# Altium schematic symbol library DCSupplyHubLib.SchLib: 133 symbols (part 2 of 2)
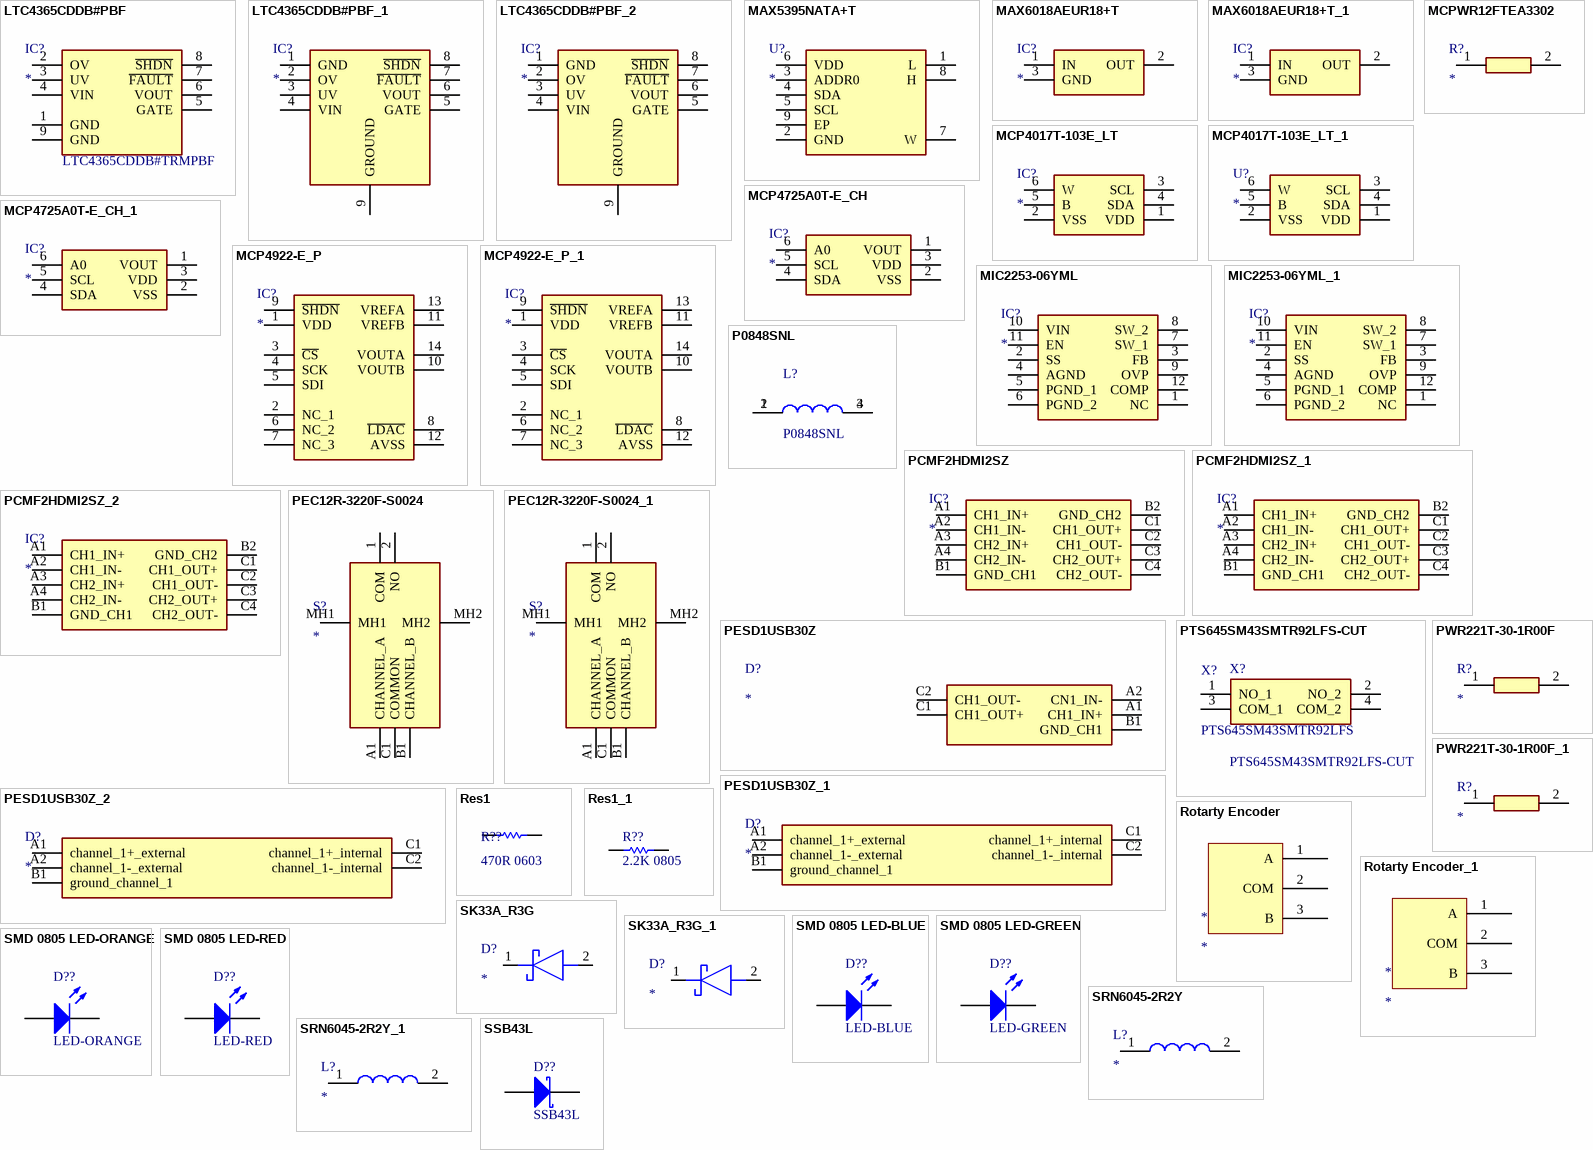
[diagram p4: symbols LTC4365CDDB#PBF to SSB43L]

## MIC2253-06YML
designator IC?
Integrated Circuit; Manufacturer_Name: Microchip; Manufacturer_Part_Number: MIC2253-06YML; Datasheet Link: http://uk.rs-online.com/web/p/products/7092273; Height: 0.9mm
footprint SON50P300X300X90-13N-D
pins: 1 NC, 2 SS, 3 FB, 4 AGND, 5 PGND_1, 6 PGND_2, 7 SW_1, 8 SW_2, 9 OVP, 10 VIN, 11 EN, 12 COMP

## MIC2253-06YML_1
designator IC?
Integrated Circuit; Manufacturer_Name: Microchip; Manufacturer_Part_Number: MIC2253-06YML; Datasheet Link: http://uk.rs-online.com/web/p/products/7092273; Height: 0.9mm
footprint SON50P300X300X90-13N-D
pins: 1 NC, 2 SS, 3 FB, 4 AGND, 5 PGND_1, 6 PGND_2, 7 SW_1, 8 SW_2, 9 OVP, 10 VIN, 11 EN, 12 COMP

## P0848SNL
designator L?
FIXED IND 50UH 5A 25 MOHM SMD; Manufacturer_Name: Pulse Electronics; Geometry.Height: 12.7mm; Manufacturer_Part_Number: P0848SNL; Mouser Part Number: 673-P0848SNL; Mouser Price/Stock: https://www.mouser.co.uk/ProductDetail/Pulse-Electronics/P0848SNL?qs=XfNjFG7P%252BGIy60WqB%2FkzDw%3D%3D; Arrow Part Number: P0848SNL; Arrow Price/Stock: https://www.arrow.com/en/products/p0848snl/pulse-electronics-corporation?region=nac; Datasheet Link: http://productfinder.pulseeng.com/products/datasheets/SPM2007_46.pdf
footprint P0848SNL
pins: 1, 2, 3, 4

## PCMF2HDMI2SZ
designator IC?
Integrated Circuit; Manufacturer_Name: Nexperia; Manufacturer_Part_Number: PCMF2HDMI2SZ; Datasheet Link: https://assets.nexperia.com/documents/data-sheet/PCMFXHDMI2S_SER.pdf; Height: 0.6mm; Mouser Part Number: 771-PCMF2HDMI2SZ; Mouser Price/Stock: https://www.mouser.co.uk/ProductDetail/Nexperia/PCMF2HDMI2SZ?qs=ZgsfeaBZMTTJnsIdjB80bA%3D%3D; Arrow Part Number: PCMF2HDMI2SZ; Arrow Price/Stock: https://www.arrow.com/en/products/pcmf2hdmi2sz/nexperia?region=nac
footprint PCMF2HDMI2SZ
pins: A1 CH1_IN+, A2 CH1_IN-, A3 CH2_IN+, A4 CH2_IN-, B1 GND_CH1, B2 GND_CH2, C1 CH1_OUT+, C2 CH1_OUT-, C3 CH2_OUT+, C4 CH2_OUT-

## PCMF2HDMI2SZ_1
designator IC?
Integrated Circuit; Manufacturer_Name: Nexperia; Manufacturer_Part_Number: PCMF2HDMI2SZ; Datasheet Link: https://assets.nexperia.com/documents/data-sheet/PCMFXHDMI2S_SER.pdf; Height: 0.6mm; Mouser Part Number: 771-PCMF2HDMI2SZ; Mouser Price/Stock: https://www.mouser.co.uk/ProductDetail/Nexperia/PCMF2HDMI2SZ?qs=ZgsfeaBZMTTJnsIdjB80bA%3D%3D; Arrow Part Number: PCMF2HDMI2SZ; Arrow Price/Stock: https://www.arrow.com/en/products/pcmf2hdmi2sz/nexperia?region=nac
footprint PCMF2HDMI2SZ
pins: A1 CH1_IN+, A2 CH1_IN-, A3 CH2_IN+, A4 CH2_IN-, B1 GND_CH1, B2 GND_CH2, C1 CH1_OUT+, C2 CH1_OUT-, C3 CH2_OUT+, C4 CH2_OUT-

## PCMF2HDMI2SZ_2
designator IC?
Integrated Circuit; Manufacturer_Name: Nexperia; Manufacturer_Part_Number: PCMF2HDMI2SZ; Datasheet Link: https://assets.nexperia.com/documents/data-sheet/PCMFXHDMI2S_SER.pdf; Height: 0.6mm; Mouser Part Number: 771-PCMF2HDMI2SZ; Mouser Price/Stock: https://www.mouser.co.uk/ProductDetail/Nexperia/PCMF2HDMI2SZ?qs=ZgsfeaBZMTTJnsIdjB80bA%3D%3D; Arrow Part Number: PCMF2HDMI2SZ; Arrow Price/Stock: https://www.arrow.com/en/products/pcmf2hdmi2sz/nexperia?region=nac
footprint PCMF2HDMI2SZ
pins: A1 CH1_IN+, A2 CH1_IN-, A3 CH2_IN+, A4 CH2_IN-, B1 GND_CH1, B2 GND_CH2, C1 CH1_OUT+, C2 CH1_OUT-, C3 CH2_OUT+, C4 CH2_OUT-

## PEC12R-3220F-S0024
designator S?
Switch; Manufacturer_Name: Bourns; Manufacturer_Part_Number: PEC12R-3220F-S0024; Datasheet Link: https://www.bourns.com/docs/Product-Datasheets/PEC12R.pdf; Height: 22.5mm; Mouser Part Number: 652-PEC12R3220FS0024; Mouser Price/Stock: https://www.mouser.co.uk/ProductDetail/Bourns/PEC12R-3220F-S0024?qs=%252B9%2Fcbd0IE0Tm%252BWkxcjszVA%3D%3D; Arrow Part Number: PEC12R-3220F-S0024; Arrow Price/Stock: https://www.arrow.com/en/products/pec12r-3220f-s0024/bourns?region=nac
footprint PEC12R3220FS0024
pins: 1 COM, 2 NO, A1 CHANNEL_A, B1 CHANNEL_B, C1 COMMON, MH1, MH2

## PEC12R-3220F-S0024_1
designator S?
Switch; Manufacturer_Name: Bourns; Manufacturer_Part_Number: PEC12R-3220F-S0024; Datasheet Link: https://www.bourns.com/docs/Product-Datasheets/PEC12R.pdf; Height: 22.5mm; Mouser Part Number: 652-PEC12R3220FS0024; Mouser Price/Stock: https://www.mouser.co.uk/ProductDetail/Bourns/PEC12R-3220F-S0024?qs=%252B9%2Fcbd0IE0Tm%252BWkxcjszVA%3D%3D; Arrow Part Number: PEC12R-3220F-S0024; Arrow Price/Stock: https://www.arrow.com/en/products/pec12r-3220f-s0024/bourns?region=nac
footprint PEC12R3220FS0024
pins: 1 COM, 2 NO, A1 CHANNEL_A, B1 CHANNEL_B, C1 COMMON, MH1, MH2

## PESD1USB30Z
designator D?
Diode; Manufacturer_Name: Nexperia; Manufacturer_Part_Number: PESD1USB30Z; Datasheet Link: https://assets.nexperia.com/documents/data-sheet/PESDXUSB30_SER.pdf; Height: 0.64mm; Mouser Part Number: 771-PESD1USB30Z; Mouser Price/Stock: https://www.mouser.co.uk/ProductDetail/Nexperia/PESD1USB30Z?qs=2bnkQPT%252BPafIxt%2FF63VwrA%3D%3D; Arrow Part Number: PESD1USB30Z; Arrow Price/Stock: https://www.arrow.com/en/products/pesd1usb30z/nexperia
footprint PESD1USB3BCX
pins: A1 CH1_IN+, A2 CN1_IN-, B1 GND_CH1, C1 CH1_OUT+, C2 CH1_OUT-

## PESD1USB30Z_1
designator D?
Diode; Manufacturer_Name: Nexperia; Manufacturer_Part_Number: PESD1USB30Z; Datasheet Link: https://assets.nexperia.com/documents/data-sheet/PESDXUSB30_SER.pdf; Height: 0.64mm; Mouser Part Number: 771-PESD1USB30Z; Mouser Price/Stock: https://www.mouser.co.uk/ProductDetail/Nexperia/PESD1USB30Z?qs=2bnkQPT%252BPafIxt%2FF63VwrA%3D%3D; Arrow Part Number: PESD1USB30Z; Arrow Price/Stock: https://www.arrow.com/en/products/pesd1usb30z/nexperia
footprint PESD1USB3BCX
pins: A1 channel_1+_external, A2 channel_1-_external, B1 ground_channel_1, C1 channel_1+_internal, C2 channel_1-_internal

## PESD1USB30Z_2
designator D?
Diode; Manufacturer_Name: Nexperia; Manufacturer_Part_Number: PESD1USB30Z; Datasheet Link: https://assets.nexperia.com/documents/data-sheet/PESDXUSB30_SER.pdf; Height: 0.64mm; Mouser Part Number: 771-PESD1USB30Z; Mouser Price/Stock: https://www.mouser.co.uk/ProductDetail/Nexperia/PESD1USB30Z?qs=2bnkQPT%252BPafIxt%2FF63VwrA%3D%3D; Arrow Part Number: PESD1USB30Z; Arrow Price/Stock: https://www.arrow.com/en/products/pesd1usb30z/nexperia
footprint PESD1USB3BCX
pins: A1 channel_1+_external, A2 channel_1-_external, B1 ground_channel_1, C1 channel_1+_internal, C2 channel_1-_internal

## PTS645SM43SMTR92LFS-CUT
designator X?
PTS645 Series 6 mm Tact Switches CONTACT RATING: 50 mA @ 12 V DC; Manufacturer_Name: C & K COMPONENTS; Geometry.Height: 4.4mm; Manufacturer_Part_Number: PTS645SM43SMTR92LFS-CUT; Mouser Part Number: *; Mouser Price/Stock: *; Arrow Part Number: *; Arrow Price/Stock: *; Datasheet Link: https://www.sager.com/_resources/documents/product/C&K-PTS645SH50SM.pdf
footprint PTS645SM43SMTR92LFSCUT
pins: 1 NO_1, 2 NO_2, 3 COM_1, 4 COM_2
text: PTS645SM43SMTR92LFS

## PWR221T-30-1R00F
designator R?
Resistor; Manufacturer_Name: Bourns; Manufacturer_Part_Number: PWR221T-30-1R00F; Datasheet Link: https://www.mouser.com/datasheet/2/54/pwr221t-30-777826.pdf; Height: 3.43mm; Mouser Part Number: 652-PWR221T-30-1R00F; Mouser Price/Stock: https://www.mouser.co.uk/ProductDetail/Bourns/PWR221T-30-1R00F?qs=XYAu1o%252BHdOJGOBAldPrG1w%3D%3D; Arrow Part Number: PWR221T-30-1R00F; Arrow Price/Stock: https://www.arrow.com/en/products/pwr221t-30-1r00f/bourns
footprint TO508P343X1041X1930-2P
pins: 1, 2

## PWR221T-30-1R00F_1
designator R?
Resistor; Manufacturer_Name: Bourns; Manufacturer_Part_Number: PWR221T-30-1R00F; Datasheet Link: https://www.mouser.com/datasheet/2/54/pwr221t-30-777826.pdf; Height: 3.43mm; Mouser Part Number: 652-PWR221T-30-1R00F; Mouser Price/Stock: https://www.mouser.co.uk/ProductDetail/Bourns/PWR221T-30-1R00F?qs=XYAu1o%252BHdOJGOBAldPrG1w%3D%3D; Arrow Part Number: PWR221T-30-1R00F; Arrow Price/Stock: https://www.arrow.com/en/products/pwr221t-30-1r00f/bourns
footprint TO508P343X1041X1930-2P
pins: 1, 2

## Res1
designator R??, comment 470R 0603
Resistor; Published: 8-Jun-2000; LatestRevisionDate: 17-Jul-2002; LatestRevisionNote: Re-released for DXP Platform.; PackageReference: AXIAL-0.3; Publisher: Altium Limited; PackageDescription: Axial Device, Thru-Hole; 2 Leads; 0.3 in Pin Spacing
footprint CAPC1005X55N
footprint RES_0603
footprint Model Name (Footprint not found)
footprint Model Name (Footprint not found)
pins: 1, 2

## Res1_1
designator R??, comment 2.2K 0805
Resistor; Published: 8-Jun-2000; LatestRevisionDate: 17-Jul-2002; LatestRevisionNote: Re-released for DXP Platform.; PackageReference: AXIAL-0.3; Publisher: Altium Limited; PackageDescription: Axial Device, Thru-Hole; 2 Leads; 0.3 in Pin Spacing
footprint RES_0805
footprint CAPC1005X55N
pins: 1, 2

## Rotarty Encoder
designator *
pins: 1 A, 2 COM, 3 B

## Rotarty Encoder_1
designator *
pins: 1 A, 2 COM, 3 B

## SK33A_R3G
designator D?
Schottky Diode; Manufacturer_Name: Taiwan Semiconductor; Manufacturer_Part_Number: SK33A R3G; Datasheet Link: https://eu.mouser.com/datasheet/2/395/SK32A%20SERIES_T1705-1140381.pdf; Height: 2.5mm; Mouser Part Number: 821-SK33AR3G; Mouser Price/Stock: https://www.mouser.co.uk/ProductDetail/Taiwan-Semiconductor/SK33A-R3G?qs=u4fy%2FsgLU9MRgnm6RX6lAA%3D%3D
footprint DIOM5126X250N
pins: 1 K, 2 A

## SK33A_R3G_1
designator D?
Schottky Diode; Manufacturer_Name: Taiwan Semiconductor; Manufacturer_Part_Number: SK33A R3G; Datasheet Link: https://eu.mouser.com/datasheet/2/395/SK32A%20SERIES_T1705-1140381.pdf; Height: 2.5mm; Mouser Part Number: 821-SK33AR3G; Mouser Price/Stock: https://www.mouser.co.uk/ProductDetail/Taiwan-Semiconductor/SK33A-R3G?qs=u4fy%2FsgLU9MRgnm6RX6lAA%3D%3D
footprint DIOM5126X250N
pins: 1 K, 2 A

## SMD 0805 LED-BLUE
designator D??, comment LED-BLUE
BLUE LED, Case 0805; Supplier 1: Farnell; Supplier Part Number 1: 1850746
footprint LED0805B (SMD; Blue LED; Body 2.1 x 1.35 mm)
pins: A, K

## SMD 0805 LED-GREEN
designator D??, comment LED-GREEN
GREEN  LED,Case 0805; Supplier 1: Farnell; Supplier Part Number 1: 1716766
footprint LED0805G (Footprint not found)
footprint Model Name (Footprint not found)
pins: A, K

## SMD 0805 LED-ORANGE
designator D??, comment LED-ORANGE
ORANGE LED, Case 0805; Supplier 1: Farnell; Supplier Part Number 1: 8529922
footprint LED0805O (SMD; Orange LED; Body 2.1 x 1.35 mm)
pins: A, K

## SMD 0805 LED-RED
designator D??, comment LED-RED
RED LED, Case 0805; Supplier 1: Farnell; Supplier Part Number 1: 1581239
footprint LED0805R (SMD; Red LED; Body 2.1 x 1.35 mm)
footprint Model Name (Footprint not found)
pins: A, K

## SRN6045-2R2Y
designator L?
Inductor; Manufacturer_Name: Bourns; Manufacturer_Part_Number: SRN6045-2R2Y; Datasheet Link: https://www.bourns.com/docs/Product-Datasheets/SRN6045.pdf; Mouser Part Number: 652-SRN6045-2R2Y; Mouser Price/Stock: https://www.mouser.co.uk/ProductDetail/Bourns/SRN6045-2R2Y?qs=opBjA1TV903BwygMAGUj4g%3D%3D; Arrow Part Number: SRN6045-2R2Y; Arrow Price/Stock: https://www.arrow.com/en/products/srn6045-2r2y/bourns?region=nac
footprint SRN6045_1
pins: 1, 2

## SRN6045-2R2Y_1
designator L?
Inductor; Manufacturer_Name: Bourns; Manufacturer_Part_Number: SRN6045-2R2Y; Datasheet Link: https://www.bourns.com/docs/Product-Datasheets/SRN6045.pdf; Mouser Part Number: 652-SRN6045-2R2Y; Mouser Price/Stock: https://www.mouser.co.uk/ProductDetail/Bourns/SRN6045-2R2Y?qs=opBjA1TV903BwygMAGUj4g%3D%3D; Arrow Part Number: SRN6045-2R2Y; Arrow Price/Stock: https://www.arrow.com/en/products/srn6045-2r2y/bourns?region=nac
footprint SRN6045_1
pins: 1, 2

## SSB43L
designator D??
Schottky Diode, 4A, 30v; Supplier 1: Farnell; Supplier Part Number 1: 1336556
footprint DO-214AA(SMB) (Body 3.9x4.57mm)
pins: A, K

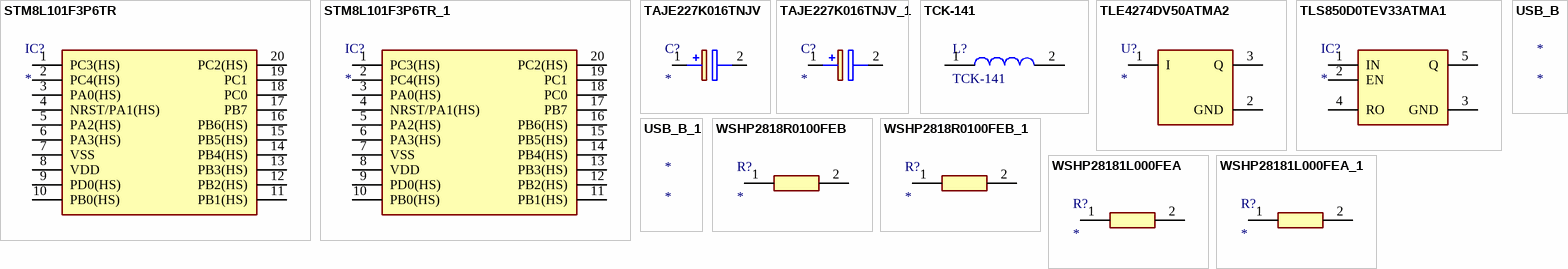
[diagram p3: symbols STM8L101F3P6TR to WSHP28181L000FEA_1]

## STM8L101F3P6TR
designator IC?
Integrated Circuit; Manufacturer_Name: STMicroelectronics; Manufacturer_Part_Number: STM8L101F3P6TR; Datasheet Link: https://www.st.com/resource/en/datasheet/stm8l101f1.pdf; Height: 1.2mm; Mouser Part Number: 511-STM8L101F3P6TR; Mouser Price/Stock: https://www.mouser.co.uk/ProductDetail/STMicroelectronics/STM8L101F3P6TR?qs=4b8myOmUP%252BuctumRNmucpg%3D%3D; Arrow Part Number: STM8L101F3P6TR; Arrow Price/Stock: https://www.arrow.com/en/products/stm8l101f3p6tr/stmicroelectronics
footprint CLT34BT6
pins: 1 PC3(HS), 2 PC4(HS), 3 PA0(HS), 4 NRST/PA1(HS), 5 PA2(HS), 6 PA3(HS), 7 VSS, 8 VDD, 9 PD0(HS), 10 PB0(HS), 11 PB1(HS), 12 PB2(HS), 13 PB3(HS), 14 PB4(HS), 15 PB5(HS), 16 PB6(HS), 17 PB7, 18 PC0, 19 PC1, 20 PC2(HS)

## STM8L101F3P6TR_1
designator IC?
Integrated Circuit; Manufacturer_Name: STMicroelectronics; Manufacturer_Part_Number: STM8L101F3P6TR; Datasheet Link: https://www.st.com/resource/en/datasheet/stm8l101f1.pdf; Height: 1.2mm; Mouser Part Number: 511-STM8L101F3P6TR; Mouser Price/Stock: https://www.mouser.co.uk/ProductDetail/STMicroelectronics/STM8L101F3P6TR?qs=4b8myOmUP%252BuctumRNmucpg%3D%3D; Arrow Part Number: STM8L101F3P6TR; Arrow Price/Stock: https://www.arrow.com/en/products/stm8l101f3p6tr/stmicroelectronics
footprint CLT34BT6
pins: 1 PC3(HS), 2 PC4(HS), 3 PA0(HS), 4 NRST/PA1(HS), 5 PA2(HS), 6 PA3(HS), 7 VSS, 8 VDD, 9 PD0(HS), 10 PB0(HS), 11 PB1(HS), 12 PB2(HS), 13 PB3(HS), 14 PB4(HS), 15 PB5(HS), 16 PB6(HS), 17 PB7, 18 PC0, 19 PC1, 20 PC2(HS)

## TAJE227K016TNJV
designator C?
Capacitor Polarised; Manufacturer_Name: AVX; Manufacturer_Part_Number: TAJE227K016TNJV; Datasheet Link: http://datasheets.avx.com/TAJ.pdf; Height: 4.3mm; Mouser Part Number: 581-TAJE227K016TNJV; Mouser Price/Stock: https://www.mouser.co.uk/ProductDetail/AVX/TAJE227K016TNJV?qs=fAHHVMwC%252BbhY50OkOiratQ%3D%3D; Arrow Part Number: TAJE227K016TNJV; Arrow Price/Stock: https://www.arrow.com/en/products/taje227k016tnjv/avx
footprint CAPPM7344X430N
pins: 1 +, 2 -

## TAJE227K016TNJV_1
designator C?
Capacitor Polarised; Manufacturer_Name: AVX; Manufacturer_Part_Number: TAJE227K016TNJV; Datasheet Link: http://datasheets.avx.com/TAJ.pdf; Height: 4.3mm; Mouser Part Number: 581-TAJE227K016TNJV; Mouser Price/Stock: https://www.mouser.co.uk/ProductDetail/AVX/TAJE227K016TNJV?qs=fAHHVMwC%252BbhY50OkOiratQ%3D%3D; Arrow Part Number: TAJE227K016TNJV; Arrow Price/Stock: https://www.arrow.com/en/products/taje227k016tnjv/avx
footprint CAPPM7344X430N
pins: 1 +, 2 -

## TCK-141
designator L?
FIXED IND 5.6UH 3.5A 90MOHM SMD; Mfr_Name: Traco Power; Type: DEV; Copyright: Copyright (C) 2023 Ultra Librarian. All rights reserved.; Manufacturer_Part_Number: TCK-141; RefDes: RefDes; ComponentLink1Description: Datasheet; ComponentLink1URL: https://www.tracopower.com/products/tck141.pdf
footprint IND_TCK-141_TRP
pins: 1, 2

## TLE4274DV50ATMA2
designator U?
LDO, FIXED, 5V, 0.4A, -40 TO 150DEG C; Manufacturer_Name: Infineon; Manufacturer_Part_Number: TLE4274DV50ATMA2; Datasheet Link: https://www.mouser.com/datasheet/2/196/Infineon-TLE4274-DS-v01_70-EN-1133217.pdf; Height: 2mm; Mouser Part Number: 726-TLE4274DV50ATMA2; Mouser Price/Stock: https://www.mouser.co.uk/ProductDetail/Infineon-Technologies/TLE4274DV50ATMA2/?qs=IxCaM9nJKKWmxkR9ksyK2Q%3D%3D; Arrow Part Number: TLE4274DV50ATMA2; Arrow Price/Stock: https://www.arrow.com/en/products/tle4274dv50atma2/infineon-technologies-ag?region=nac; ComponentLink1Description: Datasheet; ComponentLink1URL: https://www.mouser.com/datasheet/2/196/Infineon-TLE4274-DS-v01_70-EN-1133217.pdf
footprint IPD90N06S4L03
pins: 1 I, 2 GND, 3 Q

## TLS850D0TEV33ATMA1
designator IC?
Integrated Circuit; Manufacturer_Name: Infineon; Manufacturer_Part_Number: TLS850D0TEV33ATMA1; Datasheet Link: https://www.arrow.com/en/products/tls850d0tev33atma1/infineon-technologies-ag; Height: 2mm; Mouser Part Number: 726-TLS850D0TEV33ATM; Mouser Price/Stock: https://www.mouser.co.uk/ProductDetail/Infineon-Technologies/TLS850D0TEV33ATMA1?qs=lJkB7%252BtQNiOAXKJxyf22ag%3D%3D; Arrow Part Number: TLS850D0TEV33ATMA1; Arrow Price/Stock: https://www.arrow.com/en/products/tls850d0tev33atma1/infineon-technologies-ag; ComponentLink1Description: Datasheet; ComponentLink1URL: https://4donline.ihs.com/images/VipMasterIC/IC/INFN/INFN-S-A0003268371/INFN-S-A0003268371-1.pdf?hkey=6D3A4C79FDBF58556ACFDE234799DDF0
footprint BTS6143D
pins: 1 IN, 2 EN, 3 GND, 4 RO, 5 Q

## USB_B
designator *

## USB_B_1
designator *

## WSHP2818R0100FEB
designator R?
Resistor; Manufacturer_Name: Vishay; Manufacturer_Part_Number: WSHP2818R0100FEB; Datasheet Link: https://componentsearchengine.com/Datasheets/2/WSHP2818R0100FEB.pdf; Height: 1.75mm; Mouser Part Number: 71-WSHP2818R0100FEB; Mouser Price/Stock: https://www.mouser.co.uk/ProductDetail/Vishay-Dale/WSHP2818R0100FEB?qs=r5DSvlrkXmK0VDBpYSB4bA%3D%3D; Arrow Part Number: WSHP2818R0100FEB; Arrow Price/Stock: https://www.arrow.com/en/products/wshp2818r0100feb/vishay
footprint RESC7146X175N
pins: 1, 2

## WSHP2818R0100FEB_1
designator R?
Resistor; Manufacturer_Name: Vishay; Manufacturer_Part_Number: WSHP2818R0100FEB; Datasheet Link: https://componentsearchengine.com/Datasheets/2/WSHP2818R0100FEB.pdf; Height: 1.75mm; Mouser Part Number: 71-WSHP2818R0100FEB; Mouser Price/Stock: https://www.mouser.co.uk/ProductDetail/Vishay-Dale/WSHP2818R0100FEB?qs=r5DSvlrkXmK0VDBpYSB4bA%3D%3D; Arrow Part Number: WSHP2818R0100FEB; Arrow Price/Stock: https://www.arrow.com/en/products/wshp2818r0100feb/vishay
footprint RESC7146X175N
pins: 1, 2

## WSHP28181L000FEA
designator R?
Resistor; Manufacturer_Name: Vishay; Manufacturer_Part_Number: WSHP28181L000FEA; Datasheet Link: https://www.arrow.com/en/products/wshp28181l000fea/vishay; Height: 1.75mm; Mouser Part Number: 71-WSHP28181L000FEA; Mouser Price/Stock: https://www.mouser.co.uk/ProductDetail/Vishay-Dale/WSHP28181L000FEA?qs=WY0B%252Bpw29jOn6nYEBOmQMA%3D%3D; Arrow Part Number: WSHP28181L000FEA; Arrow Price/Stock: https://www.arrow.com/en/products/wshp28181l000fea/vishay?region=nac
footprint WSHP28181L000FEA
pins: 1, 2

## WSHP28181L000FEA_1
designator R?
Resistor; Manufacturer_Name: Vishay; Manufacturer_Part_Number: WSHP28181L000FEA; Datasheet Link: https://www.arrow.com/en/products/wshp28181l000fea/vishay; Height: 1.75mm; Mouser Part Number: 71-WSHP28181L000FEA; Mouser Price/Stock: https://www.mouser.co.uk/ProductDetail/Vishay-Dale/WSHP28181L000FEA?qs=WY0B%252Bpw29jOn6nYEBOmQMA%3D%3D; Arrow Part Number: WSHP28181L000FEA; Arrow Price/Stock: https://www.arrow.com/en/products/wshp28181l000fea/vishay?region=nac
footprint WSHP28181L000FEA
pins: 1, 2